# EAGLE library part LTC2874 (library Deegou_IC)
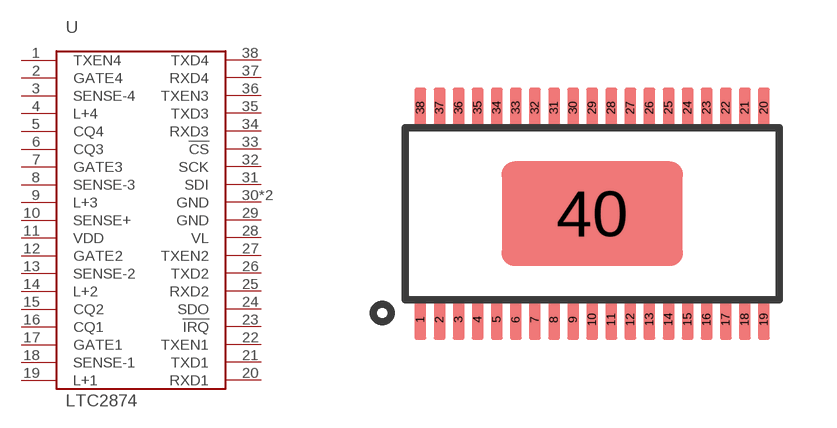
[diagram p124: symbol with the pads of TSSOP38; footprint TSSOP38]

Designator prefix U

## LTC2874  [TSSOP38]
1  TXEN4
2  GATE4
3  SENSE-4
4  L+4
5  CQ4
6  CQ3
7  GATE3
8  SENSE-3
9  L+3
10  SENSE+
11  VDD
12  GATE2
13  SENSE-2
14  L+2
15  CQ2
16  CQ1
17  GATE1
18  SENSE-1
19  L+1
20  RXD1
21  TXD1
22  TXEN1
23  !IRQ
24  SDO
25  RXD2
26  TXD2
27  TXEN2
28  VL
29  GND
30  GND
31  SDI
32  SCK
33  !CS
34  RXD3
35  TXD3
36  TXEN3
37  RXD4
38  TXD4
40  GND

## Footprint TSSOP38 (pad centres in mm)
smd 0.315 x 1.05: 1 -4.5,-2.775; 2 -4,-2.775; 3 -3.5,-2.775; 4 -3,-2.775; 5 -2.5,-2.775; 6 -2,-2.775; 7 -1.5,-2.775; 8 -1,-2.775; 9 -0.5,-2.775; 10 0,-2.775; 11 0.5,-2.775; 12 1,-2.775; 13 1.5,-2.775; 14 2,-2.775; 15 2.5,-2.775; 16 3,-2.775; 17 3.5,-2.775; 18 4,-2.775; 19 4.5,-2.775; 20 4.5,2.775; 21 4,2.775; 22 3.5,2.775; 23 3,2.775; 24 2.5,2.775; 25 2,2.775; 26 1.5,2.775; 27 1,2.775; 28 0.5,2.775; 29 0,2.775; 30 -0.5,2.775; 31 -1,2.775; 32 -1.5,2.775; 33 -2,2.775; 34 -2.5,2.775; 35 -3,2.775; 36 -3.5,2.775; 37 -4,2.775; 38 -4.5,2.775
smd 4.75 x 2.74: 40 0,0